# Altium schematic symbol library Drivers.SchLib: 1 symbol
Pins are listed as number, name and electrical type; pins without a type are passive.

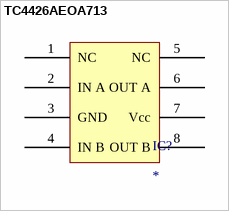
[diagram p0: symbol TC4426AEOA713]

## TC4426AEOA713
designator IC?
MOSFET DRVR 1.5A 2-OUT Lo Side Inv 8-Pin SOIC N T/R; Manufacturer: Microchip; Manufacturer Part Number: TC4426AEOA713; Supplier 1: Digi-Key; RoHS: Yes; Category: Gate Drivers; Stock 1: 3145; Pricing 1: 1=1,32000, 25=1,10000, 100=1,00000 (USD); ComponentLink1URL: https://datasheet.ciiva.com/1951/filehandler-aspxddocname-en026002-1951430.pdf?src-supplier=Digi-Key; ComponentLink1Description: https://datasheet.ciiva.com/1951/filehandler-aspxddocname-en026002-1951430.pdf?src-supplier=Digi-Key; ComponentLink2URL: https://datasheet.ciiva.com/16293/21422e-16293354.pdf?src-supplier=Future+Electronics; ComponentLink2Description: https://datasheet.ciiva.com/16293/21422e-16293354.pdf?src-supplier=Future+Electronics; ComponentLink3URL: https://datasheet.ciiva.com/17236/21423f-17236125.pdf?src-supplier=Avnet+Europe; ComponentLink3Description: https://datasheet.ciiva.com/17236/21423f-17236125.pdf?src-supplier=Avnet+Europe; ComponentLink4URL: https://datasheet.ciiva.com/8199/21423f-8199823.pdf?src-supplier=Avnet; ComponentLink4Description: https://datasheet.ciiva.com/8199/21423f-8199823.pdf?src-supplier=Avnet
footprint CI Driver
pins: 1 NC, 2 IN A, 3 GND, 4 IN B, 5 NC, 6 OUT A, 7 Vcc, 8 OUT B